# EAGLE library part 2X5 (library .headers(.1in))
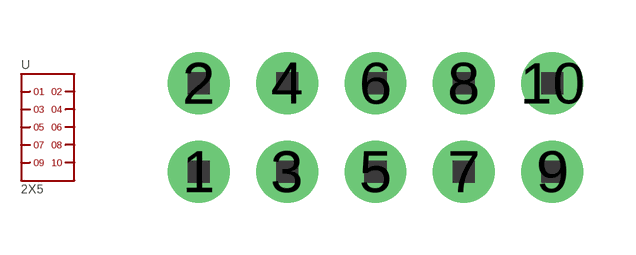
[diagram p5: symbol with the pads of 2X5; footprint 2X5]

Designator prefix -

## 2X5  [2X5]
1  1
2  2
3  3
4  4
5  5
6  6
7  7
8  8
9  9
10  10

## Footprint 2X5 (pad centres in mm)
drill 1.016 pad 1.778: 1 0,0; 2 0,2.54; 3 2.54,0; 4 2.54,2.54; 5 5.08,0; 6 5.08,2.54; 7 7.62,0; 8 7.62,2.54; 9 10.16,0; 10 10.16,2.54